# EAGLE library part AP63205WU-7 (library basisplatine_lib)
Switching Voltage Regulators DCDC Conv HV Buck TSOT26 T&R 3K Source: Datasheet <https://componentsearchengine.com/Datasheets/1/AP63205WU-7.pdf>
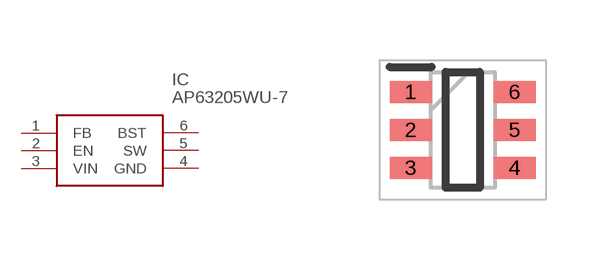
[diagram p4: symbol with the pads of SOT95P280X100-6N; footprint SOT95P280X100-6N]

Designator prefix IC

## AP63205WU-7 (DESCRIPTION: Switching Voltage Regulators DCDC Conv HV Buck TSOT26 T&R 3K; HEIGHT: 1mm; MANUFACTURER_NAME: Diodes Inc.; MANUFACTURER_PART_NUMBER: AP63205WU-7; MOUSER_PART_NUMBER: 621-AP63205WU-7; MOUSER_PRICE-STOCK: https://www.mouser.com/Search/Refine.aspx?Keyword=621-AP63205WU-7)  [SOT95P280X100-6N]
1  FB
2  EN
3  VIN
4  GND
5  SW
6  BST

## Footprint SOT95P280X100-6N (pad centres in mm)
AP63205WU-7-1
smd 1.05 x 0.55: 1 -1.3,0.95; 2 -1.3,0; 3 -1.3,-0.95; 4 1.3,-0.95; 5 1.3,0; 6 1.3,0.95